# EAGLE library part 750342295 (library wurth_electronics_midcom_inc_v2-1)
Package Style: ETD34 Mounting: THT Pins: 12 pins Bobbin: 070-5455 Best pinouts for production vary per application. Please contact Wurth Electronics Midcom, Inc. for assistance with your custom design. Website: Wurth Electronics Midcom <http://www.we-online.com/midcom> Contact us Wurth Electronics Midcom, Inc. 121 Airport Dr. Watertown, SD 57201 Phone: (605) 886-4385 Fax: (605) 886-4486 E-Mail: midcom@we-online.com
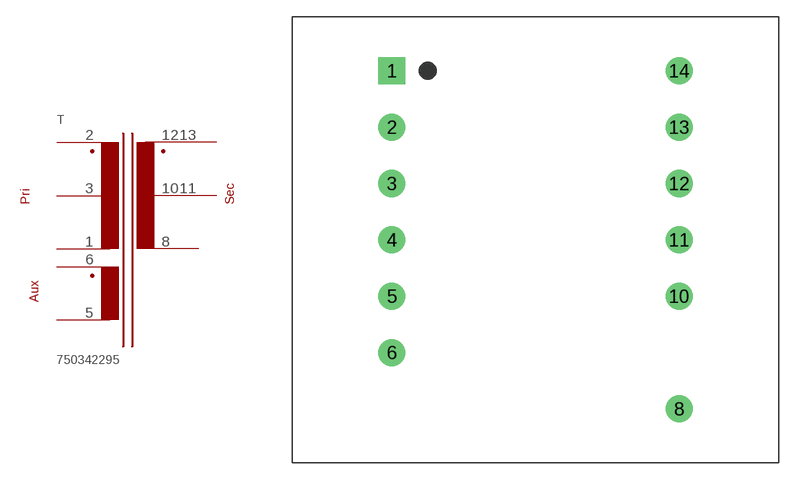
[diagram p1: symbol with the pads of ETD34_THT_H_12PIN_(5455); footprint ETD34_THT_H_12PIN_(5455)]

Designator prefix T

## 750342295  [ETD34_THT_H_12PIN_(5455)]
1  1  pas
2  2  pas
3  3  pas
5  5  pas
6  6  pas
8  8  pas
10  10  pas
11  11  pas
12  12  pas
13  13  pas

## Footprint ETD34_THT_H_12PIN_(5455) (pad centres in mm)
Package Style: ETD34 Mounting: THT Pins: 14 Bobbin: 070-5455
drill 1.6 square: 1 -12.751,15.011
drill 1.6: 2 -12.751,10.008; 3 -12.751,5.004; 4 -12.751,0; 5 -12.751,-5.004; 6 -12.751,-10.008; 8 12.751,-15.011; 10 12.751,-5.004; 11 12.751,0; 12 12.751,5.004; 13 12.751,10.008; 14 12.751,15.011